# Altium schematic symbol library JACK35MMRAPC4BH3.SchLib: 1 symbol
Pins are listed as number, name and electrical type; pins without a type are passive.

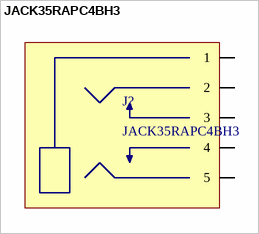
[diagram p0: symbol JACK35RAPC4BH3]

## JACK35RAPC4BH3
designator J?
CONN JACK STEREO 3.5MM; Manufacturer: Switchcraft Inc.; Manufacturer Part #: SC1464-ND; Manufacturer Part #: 35RAPC4BH3
footprint JACK35RAPC4BH3 (CONN JACK STEREO 3.5MM)
pins: 1, 2, 3, 4, 5